# EAGLE library part 502585-1070 (library 502585-1070)
Molex CLIK-MATE Series 502585 Series Number 1.5mm Pitch 10 Way 1 Row PCB Socket, Surface Mount, Crimp Termination Source: Datasheet <https://www.molex.com/pdm_docs/sd/5025851070_sd.pdf>
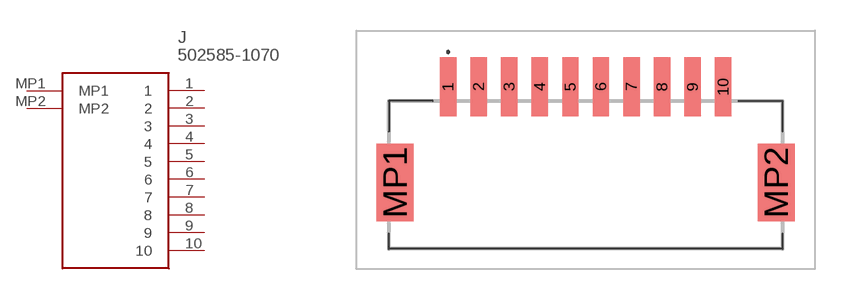
[diagram p0: symbol with the pads of 5025851070; footprint 5025851070]

Designator prefix J

## 502585-1070 (Description: Molex CLIK-MATE Series 502585 Series Number 1.5mm Pitch 10 Way 1 Row PCB Socket, Surface Mount, Crimp Termination; Height: 6.35mm; Manufacturer_Name: Molex; Manufacturer_Part_Number: 502585-1070; Mouser_Part_Number: 538-502585-1070; Mouser_Price-Stock: https://www.mouser.co.uk/ProductDetail/Molex/502585-1070?qs=3OKVfsn1b5BLfpTO0z92Dw%3D%3D)  [5025851070]
1  1
2  2
3  3
4  4
5  5
6  6
7  7
8  8
9  9
10  10
MP1  MP1
MP2  MP2

## Footprint 5025851070 (pad centres in mm)
502585-1070
smd 0.8 x 2.9: 1 -6.75,3.1; 2 -5.25,3.1; 3 -3.75,3.1; 4 -2.25,3.1; 5 -0.75,3.1; 6 0.75,3.1; 7 2.25,3.1; 8 3.75,3.1; 9 5.25,3.1; 10 6.75,3.1
smd 1.8 x 3.8: MP1 -9.35,-1.6; MP2 9.35,-1.6